# Altium schematic symbol library Airpurity.SchLib: 10 symbols
Pins are listed as number, name and electrical type; pins without a type are passive.

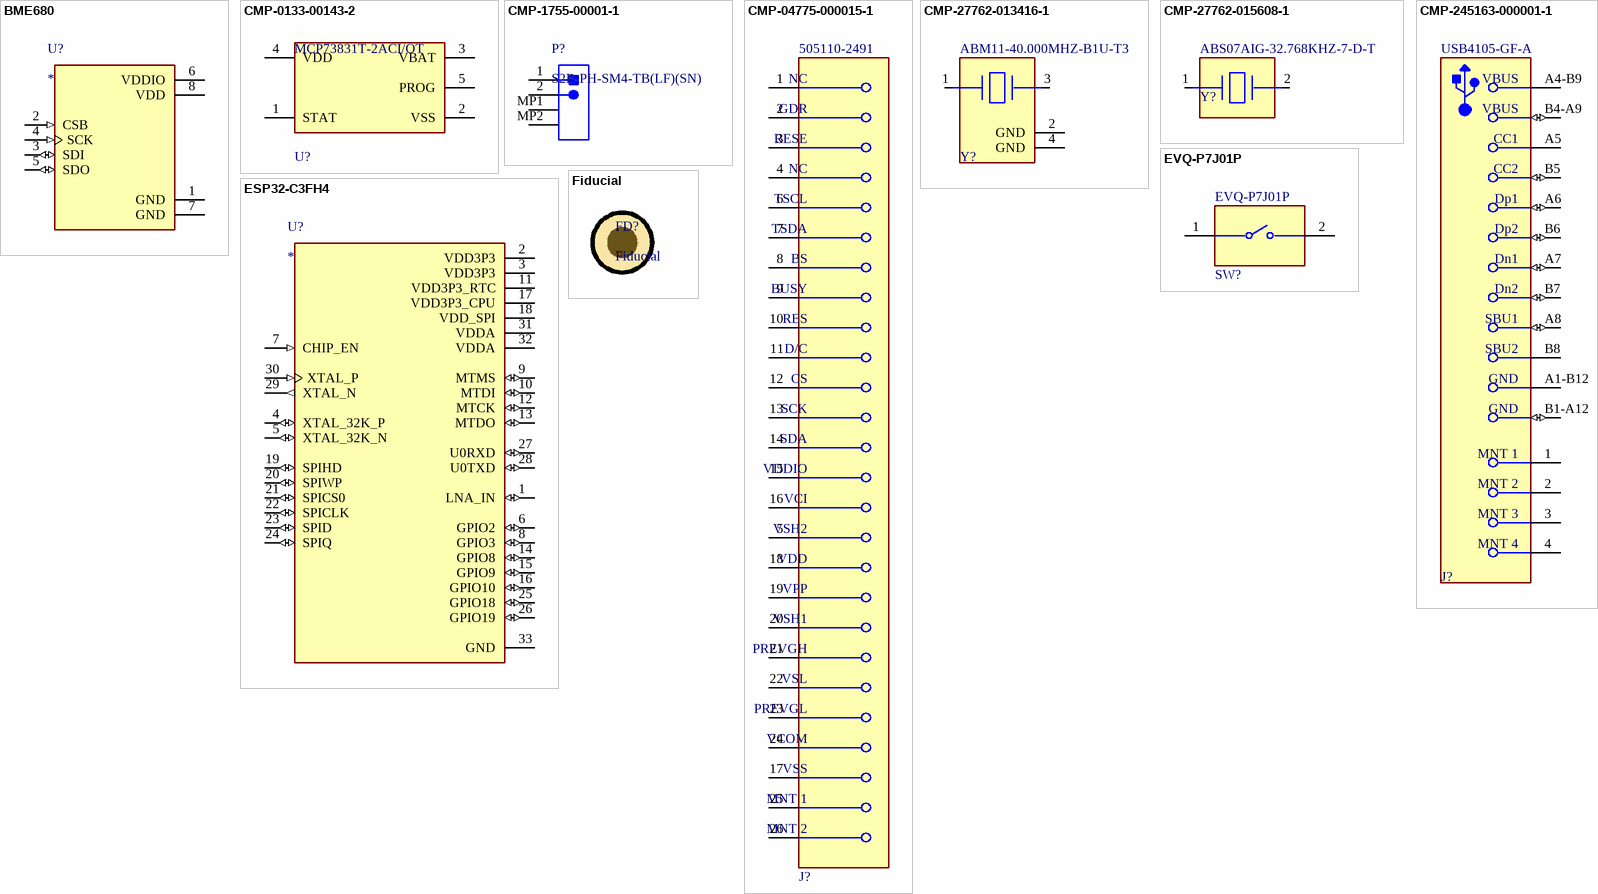
[diagram p0: symbols BME680 to Fiducial]

## BME680
designator U?
Gas, Humidity, Pressure, Temperature Sensor IÂ²C, SPI Output; MP: BME680; MF: Bosch Sensortec; Check_prices: https://www.snapeda.com/parts/BME680/Bosch+Sensortec/view-part/?ref=eda; Value: *; Availability: In Stock; Price: None; Package: LGA-8 Bosch Tools; SnapEDA_Link: https://www.snapeda.com/parts/BME680/Bosch+Sensortec/view-part/?ref=snap; Purchase-URL: https://pricing.snapeda.com/search/part/BME680/?ref=eda
footprint PSON80P300X300X100-8N
pins: 1 GND (power), 2 CSB (in), 3 SDI (io), 4 SCK (in), 5 SDO (io), 6 VDDIO (power), 7 GND (power), 8 VDD (power)

## CMP-0133-00143-2
designator U?, comment MCP73831T-2ACI/OT
IC CONTROLLR LI-ION 4.2V SOT23-5; Max Power Dissipation: 1.54W; Output Current: 500mA; Max Output Voltage: 4.5V; Number of Outputs: 1; Min Output Voltage: 4.168V; Min Supply Voltage: 3.75V; Max Input Voltage: 6V; Voltage Rating: 4.534V; Drain to Source Resistance: 350mR; Max Operating Temperature: 85°C; Length: 0.122inch; Number of Pins: 5; REACH SVHC: No SVHC; Radiation Hardening: No; Min Operating Temperature: -40°C; Weight: 0.00709oz; Contact Plating: Tin; Termination: SMD/SMT; Case/Package: SOT-23; Mount: Surface Mount; Width: 0.071inch; Packaging: Tape and Reel; Number of Cells: 1; Max Charge Current: 500mA; Height: 0.051inch; Number of Channels: 1; Output Voltage: 4.2V; Max Supply Voltage: 6V; Lead Free: Lead Free
footprint FP-SOT23-5LD-PL-1-MFG
pins: 1 STAT, 2 VSS (power), 3 VBAT (power), 4 VDD (power), 5 PROG

## CMP-1755-00001-1
designator P?, comment S2B-PH-SM4-TB(LF)(SN)
Male Header, Pitch 2 mm, 1 x 2 Position, Height 5.5 mm, -25 to 85 degC, RoHS, Tape and Reel; Current Rating: 3 A; ComponentLink1URL: http://www.jst.com/home2.html; Radiation Hardening: No; RoHSCompliant: True; Mount: Through Hole; Contact Material: Bronze; Package Quantity: 100; Width: 2.34 mm; DatasheetVersion: Dec-12; Height: 8.13 mm; Max Operating Temperature: 105degC; ComponentLink2Description: Datasheet; Lead Pitch: 0.1 inch; Contact Finish: Lead; Packaging: Bulk; Colour: Black; Contact Plating: Tin; Min Operating Temperature: -65degC; ComponentLink1Description: Manufacturer URL; PackageReference: S2B-PH-SM4-TB(LF)(SN)-2; PackageDescription: Male Header, Pitch 2 mm, 1 x 2 Position, Height 5.5 mm; ComponentLink2URL: http://www.jst-mfg.com/product/pdf/eng/ePH.pdf; Pins: 40; Length: 101.19 mm
footprint JST- S2B-PH-SM4-TB(LF)(SN)-2_V (SMD, 2-Leads, Body 7.9x7.6mm, Pitch 2mm)
pins: 1, 2, MP1, MP2

## CMP-04775-000015-1
designator J?, comment 505110-2491
CONN FFC/FPC BOTTOM 24P .5MM R/A; Mating Cycles: 25; Actuator Material: Nylon; Voltage Rating: 50V; Number of Contacts: 24; Gender: Receptacle; Actuator Color: Black; Current Rating: 500mA; Pitch: 0.5mm; Orientation: Right Angle; Contact Material: Bronze; Height: 1.9mm; Halogen Free: Low Halogen; Housing Color: Beige; Mount: Surface Mount; Packaging: Cut Tape; Contact Plating: Gold; Termination: Solder; Number of Pins: 24; Number of Rows: 1; Series: Easy-On FD19 505110; Housing Material: Polymer; Number of Positions: 24; Max Operating Temperature: 105°C; Number of Circuits: 24; Min Operating Temperature: -40°C; Flammability Rating: UL94 V-0
footprint FP-505110-2491-MFG
pins: 1, 2, 3, 4, 5, 6, 7, 8, 9, 10, 11, 12, 13, 14, 15, 16, 17, 18, 19, 20, 21, 22, 23, 24, 25 MNT 1, 26 MNT 2
text: NC; GDR; RESE; TSCL; TSDA; BS; BUSY; RES; D/C; CS; SCK; SDA; VDDIO; VCI; VSH2; VDD; VPP; VSH1; PREVGH; VSL; PREVGL; VCOM; VSS

## CMP-27762-013416-1
designator Y?, comment ABM11-40.000MHZ-B1U-T3
Crystal 40MHz ±10ppm 10pF SMD-4 2mm x 1.6mm
footprint FP-ABM11-MFG
pins: 1, 2 GND (power), 3, 4 GND (power)

## CMP-27762-015608-1
designator Y?, comment ABS07AIG-32.768KHZ-7-D-T
Crystal 32.768kHz ±20ppm (Tol) 7pF FUND 70kΩ Automotive 2-Pin Mini-CSMD T/R; ESR (Equivalent Series Resistance): 70kR; Packaging: Tape and Reel; Max Operating Temperature: 85°C; Width: 0.059inch; Case/Package: SMD/SMT; RoHS Compliant: Yes; Frequency Tolerance: 20ppm; Mount: Surface Mount; Length: 0.126inch; Ratings: AEC-Q200; Height: 0.035inch; Frequency: 32.768kHz; Load Capacitance: 7pF; Min Operating Temperature: -40°C
footprint FP-ABS07AIG-MFG
pins: 1, 2

## CMP-245163-000001-1
designator J?, comment USB4105-GF-A
CONN RCPT USB2.0 TYPEC 5A; Manufacturer: GCT; Voltage Rating: 20V; Is Female: yes; Current Rating: 5/6.25/1.25/0.25A; Number Of Contacts: 16; Conn Orientation: Right Angle; Device Class L1: Connectors; Category: Conn; Lead Free: Yes; RoHS: TRUE; Temperature Range High: +85°C; Digikey Description: CONN RCPT USB2.0 TYPEC 5A; Device Class L3: unset; ComponentLink2Description: Datasheet; Manufacturer Part Number: USB4105-GF-A; Package: 0; Usb Standard: USB 2.0; Device Class L2: USB Connectors; Automotive: No; Temperature Range Low: -40°C; Height: 3.46mm; Temperature: -40°C to +85°C; Contact Material: Gold,Nickel; ComponentLink2URL: https://gct.co/files/drawings/usb4105.pdf; Octopart: https://octopart.com/usb4105-gf-a-gct-106627878
footprint FP-USB4105-GF-A-MFG
pins: 1 MNT 1 (power), 2 MNT 2 (power), 3 MNT 3 (power), 4 MNT 4 (power), A1-B12 GND (power), A4-B9 VBUS (power), A5 CC1 (power), A6 Dp1 (io), A7 Dn1 (io), A8 SBU1 (io), B1-A12 GND (io), B4-A9 VBUS (io), B5 CC2 (io), B6 Dp2 (io), B7 Dn2 (io), B8 SBU2 (power)

## ESP32-C3FH4
designator U?
Bluetooth, WiFi 802.11b/g/n, Bluetooth v5.0 Transceiver Module 2.402GHz ~ 2.48GHz Antenna Not Included Surface Mount; MF: Espressif Systems; MP: ESP32-C3FH4; Check_prices: https://www.snapeda.com/parts/ESP32-C3FH4/Espressif%20Systems/view-part/5881917/?ref=eda; Availability: In Stock; Value: *; Price: None; Purchase-URL: https://pricing.snapeda.com/search/part/ESP32-C3FH4/?ref=eda; Package: VFQFN-32 Espressif Systems; SnapEDA_Link: https://www.snapeda.com/parts/ESP32-C3FH4/Espressif%20Systems/view-part/5881917/?ref=snap
footprint QFN50P500X500X90-33N
pins: 1 LNA_IN (io), 2 VDD3P3 (power), 3 VDD3P3 (power), 4 XTAL_32K_P (io), 5 XTAL_32K_N (io), 6 GPIO2 (io), 7 CHIP_EN (in), 8 GPIO3 (io), 9 MTMS (io), 10 MTDI (io), 11 VDD3P3_RTC (power), 12 MTCK (io), 13 MTDO (io), 14 GPIO8 (io), 15 GPIO9 (io), 16 GPIO10 (io), 17 VDD3P3_CPU (power), 18 VDD_SPI (power), 19 SPIHD (io), 20 SPIWP (io), 21 SPICS0 (io), 22 SPICLK (io), 23 SPID (io), 24 SPIQ (io), 25 GPIO18 (io), 26 GPIO19 (io), 27 U0RXD (io), 28 U0TXD (io), 29 XTAL_N (out), 30 XTAL_P (in), 31 VDDA (power), 32 VDDA (power), 33 GND (power)

## EVQ-P7J01P
designator SW?
SWITCH TACTILE SPST-NO 0.05A 12V; Manufacturer: Panasonic; Operating Force: 1.6N; Contact Current Rating: 50mA; Electromechanical Life: 100000Cycles; Contact Resistance: 500mΩ; Height: 1.55mm; Temperature Range Low: -20°C; Device Class L1: Electromechanical; Package: 0; RoHS: TRUE; Category: Switch; ComponentLink2Description: Datasheet; Device Class L2: Switches; Temperature Range High: +70°C; Mount: Surface Mount; Device Class L3: Tactile Switches; Temperature: -20°C to +70°C; Automotive: No; Manufacturer Part Number: EVQ-P7J01P; Mouser Description: Tactile Switches 3.5x2.9mm Right Ang Light Touch Switch; ComponentLink2URL: https://b2b-api.panasonic.eu/file_stream/pids/fileversion/2431; Lead Free: Yes; Octopart: https://octopart.com/evq-p7j01p-panasonic-29917078; Digikey Description: SWITCH TACTILE SPST-NO 0.05A 12V; Voltage Rating Dc: 12V; Throw Configuration: SPST-NO
footprint FP-EVQ-P7J01P-MFG
pins: 1, 2

## Fiducial
designator FD?
footprint FIDUCIAL-1MM (1MM FIDUCAL MARKER)